# EAGLE library part LM4910MM (library LM4910MM)
Audio power amplifier,LM4910MM 35mW Source: Datasheet <http://www.ti.com/lit/ds/symlink/lm4910.pdf>
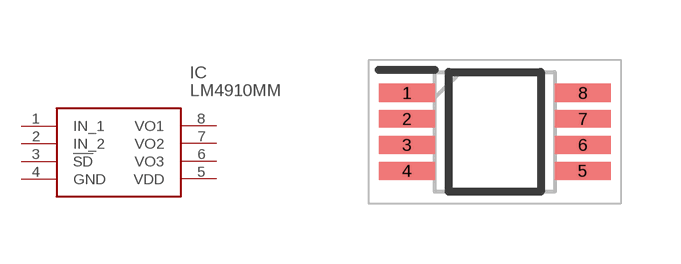
[diagram p0: symbol with the pads of SOP65P490X110-8N; footprint SOP65P490X110-8N]

Designator prefix IC

## LM4910MM (Description: Audio power amplifier,LM4910MM 35mW; Height: 1.1mm; Manufacturer_Name: Texas Instruments; Manufacturer_Part_Number: LM4910MM; Mouser_Part_Number: 926-LM4910MM; Mouser_Price-Stock: https://www.mouser.com/Search/Refine.aspx?Keyword=926-LM4910MM; RS_Part_Number: 4717926; RS_Price-Stock: http://uk.rs-online.com/web/p/products/4717926)  [SOP65P490X110-8N]
1  IN_1  in
2  IN_2  in
3  !SD
4  GND  pwr
5  VDD  pwr
6  VO3
7  VO2
8  VO1

## Footprint SOP65P490X110-8N (pad centres in mm)
DGK (S-PDSO-G8)
smd 1.4 x 0.45: 1 -2.2,0.975; 2 -2.2,0.325; 3 -2.2,-0.325; 4 -2.2,-0.975; 5 2.2,-0.975; 6 2.2,-0.325; 7 2.2,0.325; 8 2.2,0.975